# Altium schematic symbol library FF_component_lib.SchLib: 148 symbols (part 1 of 2)
Pins are listed as number, name and electrical type; pins without a type are passive.

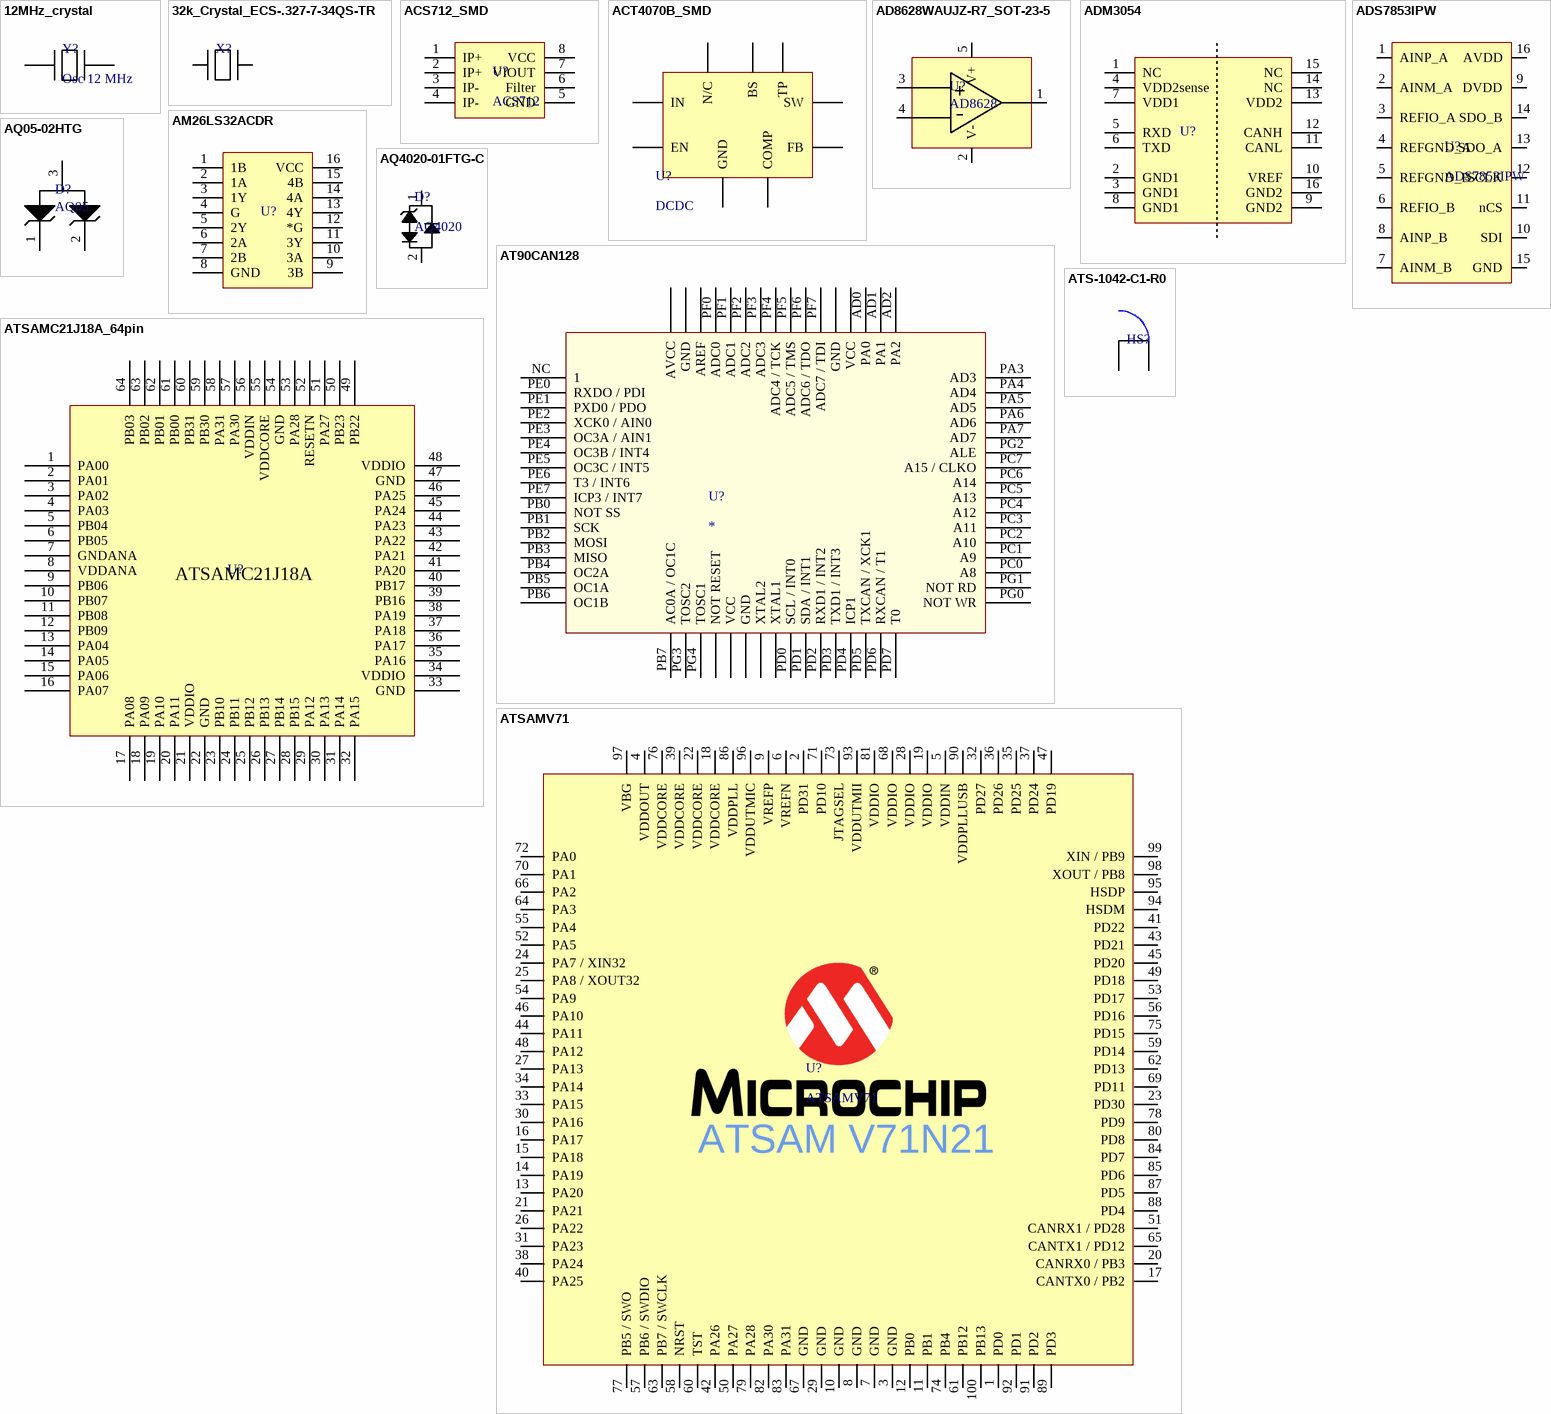
[diagram p0: symbols 12MHz_crystal to ATSAMV71]

## 12MHz_crystal
designator Y?, comment Osc 12 MHz
CX3225GA12000D0PTVCC; Parameter 1: *; Parameter 2: *
footprint CX3225GA12000D0PTVCC
pins: 1 49, 2 50

## 32k_Crystal_ECS-.327-7-34QS-TR
designator X?  (value not drawn)
Crystal 0.032768MHz ±20ppm (Stability) 7pF FUND 70000Ohm Automotive 2-Pin SMD T/R; Manufacturer 1: ECS International; Manufacturer Part Number 1: ECS-.327-7-34QS-TR; Frequency: 32.768kHz; ESR (Equivalent Series Resistance): 80kR; Supplier 1: Digi-Key; Stock 1: 2973; Pricing 1: 1=0.74000, 10=0.65500, 50=0.61260, 100=0.54130, 500=0.51282, 1000=0.42735 (USD); RoHS: Yes; Mount: Surface Mount; Case/Package: SMD/SMT; Min Operating Temperature: -40°C; Max Operating Temperature: 125°C; Frequency Tolerance: 20ppm; Packaging: Tape and Reel; Load Capacitance: 7pF; Length: 0.126inch; Height: 0.035inch; Width: 0.061inch; Ratings: AEC-Q200; ComponentLink1URL: http://www.ecsxtal.com/store/pdf/partnumber4.pdf?src-supplier=Digi-Key; ComponentLink1Description: http://www.ecsxtal.com/store/pdf/partnumber4.pdf?src-supplier=Digi-Key; Supplier Part Number 1: XC2157CT-ND
footprint 32k_crystal
pins: 1, 2

## ACS712_SMD
designator U?, comment ACS712
Current sensor. DISCONTINUED; Supplier Link 1: https://www.digikey.com/product-detail/en/allegro-microsystems/ACS712ELCTR-20A-T/620-1190-1-ND/1284607; Supplier Part Number 1: 620-1190-1-ND
footprint ACS712_SMD
pins: 1 IP+, 2 IP+, 3 IP-, 4 IP-, 5 GND, 6 Filter, 7 VIOUT, 8 VCC

## ACT4070B_SMD
designator U?, comment DCDC
6v to 30v input range / 3A output current / up to 12v output / https://active-semi.com/wp-content/uploads/ACT4070B_Datasheet.pdf; Supplier Link 1: https://www.digikey.com/product-detail/en/qorvo-us-inc/ACT4070BYH-T/1488-1080-1-ND/5723014; Supplier Part Number 1: 1488-1080-1-ND
footprint ACT4070B_SMD (Footprint not found)
pins: 1 BS, 2 IN, 3 SW, 4 GND, 5 FB, 6 COMP, 7 EN, 8 N/C, 9 TP

## AD8628WAUJZ-R7_SOT-23-5
designator U?, comment AD8628
Supplier Part Number 1: AD8628WAUJZ-R7CT-ND; Supplier Link 1: https://www.digikey.com/product-detail/en/analog-devices-inc/AD8628WAUJZ-R7/AD8628WAUJZ-R7CT-ND/2467896
footprint SOT-23-5 (0.95 pitch)
pins: 1 OUT, 2 V-, 3 +IN, 4 -IN, 5 V+

## ADM3054
designator U?  (value not drawn)
5kV rms signal isolated high speed can transceiver with bus protection; Supplier Link 1: https://www.digikey.com/product-detail/en/analog-devices-inc/ADM3054BRWZ-RL7/ADM3054BRWZ-RL7CT-ND/3828928; Supplier Part Number 1: ADM3054BRWZ-RL7CT-ND
footprint ADM3054_SOIC-16
pins: 1 NC, 2 GND1, 3 GND1, 4 VDD2sense, 5 RXD, 6 TXD, 7 VDD1, 8 GND1, 9 GND2, 10 VREF, 11 CANL, 12 CANH, 13 VDD2, 14 NC, 15 NC, 16 GND2

## ADS7853IPW
designator U?
SAR ADC, dual, single-ended input, 1 MSPS, 14-bit, simultaneous sampling 16-TSSOP -40 to 125; Manufacturer 1: Texas Instruments; Interface: SPI; Number of A/D Converters: 2; Resolution: 14b; Power Consumption: 45mW; Supply Type: Analog; Power Dissipation: 42.5mW; Integral Nonlinearity (INL): 2LSB; Signal to Noise Ratio (SNR): 84dB; Max Power Dissipation: 50mW; Max Supply Voltage: 5.5V; Number of Bits: 14; Sampling Rate: 1000000S/s; Supplier 1: Digi-Key; Manufacturer Part Number 1: ADS7853IPW; Stock 1: 39; Pricing 1: 1=12.60000, 10=11.58000, 25=11.10000, 100=9.30000, 250=8.70000, 500=8.10000, 1000=7.98000 (USD); Mount: Surface Mount; Case/Package: TSSOP; Contact Plating: Gold; Min Operating Temperature: -40°C; Max Operating Temperature: 125°C; Number of Analog Inputs: 2; Packaging: Rail/Tube; Number of Inputs: 2; Lead Free: Lead Free; ComponentLink1URL: http://www.ti.com/lit/gpn/ads7853?src-supplier=Mouser; ComponentLink1Description: http://www.ti.com/lit/gpn/ads7853?src-supplier=Mouser; ComponentLink2URL: http://www.ti.com/lit/ds/symlink/ads7253.pdf?src-supplier=Digi-Key; ComponentLink2Description: http://www.ti.com/lit/ds/symlink/ads7253.pdf?src-supplier=Digi-Key; ComponentLink3URL: http://www.ti.com/general/docs/lit/getliterature.tsp?genericPartNumber=ADS8353&&fileType=pdf&src-supplier=Avnet; ComponentLink3Description: http://www.ti.com/general/docs/lit/getliterature.tsp?genericPartNumber=ADS8353&&fileType=pdf&src-supplier=Avnet; ComponentLink4URL: https://octopart.com/click/track?ai=8629&ct=datasheets&sig=0aac16f&at=physicalpart&sid=370&ppid=31930871&hlid=24871681&src-supplier=TI+store; ComponentLink4Description: https://octopart.com/click/track?ai=8629&ct=datasheets&sig=0aac16f&at=physicalpart&sid=370&ppid=31930871&hlid=24871681&src-supplier=TI+store; ComponentLink5URL: http://datasheet.octopart.com/ADS7853IPW-Texas-Instruments-datasheet-21094391.pdf?src-supplier=TI+store; ComponentLink5Description: http://datasheet.octopart.com/ADS7853IPW-Texas-Instruments-datasheet-21094391.pdf?src-supplier=TI+store; ComponentLink6URL: http://datasheet.octopart.com/ADS7853IPW-Texas-Instruments-datasheet-27606295.pdf?src-supplier=TI+store; ComponentLink6Description: http://datasheet.octopart.com/ADS7853IPW-Texas-Instruments-datasheet-27606295.pdf?src-supplier=TI+store; ComponentLink7URL: http://datasheet.octopart.com/ADS7853IPW-Texas-Instruments-datasheet-28317083.pdf?src-supplier=TI+store; ComponentLink7Description: http://datasheet.octopart.com/ADS7853IPW-Texas-Instruments-datasheet-28317083.pdf?src-supplier=TI+store; ComponentLink8URL: http://datasheet.octopart.com/ADS7853IPW-Texas-Instruments-datasheet-34211264.pdf?src-supplier=TI+store; ComponentLink8Description: http://datasheet.octopart.com/ADS7853IPW-Texas-Instruments-datasheet-34211264.pdf?src-supplier=TI+store; ComponentLink9URL: http://sigma.octopart.com/49249815/technical_drawing/Texas-Instruments-ADS7853IPW.pdf?src-supplier=TI+store; ComponentLink9Description: http://sigma.octopart.com/49249815/technical_drawing/Texas-Instruments-ADS7853IPW.pdf?src-supplier=TI+store; ComponentLink10URL: http://sigma.octopart.com/116621398/technical_drawing/Texas-Instruments-ADS7853IPW.pdf?src-supplier=TI+store; ComponentLink10Description: http://sigma.octopart.com/116621398/technical_drawing/Texas-Instruments-ADS7853IPW.pdf?src-supplier=TI+store; ComponentLink11URL: http://datasheet.octopart.com/ADS7853IPW-Texas-Instruments-datasheet-23699007.pdf?src-supplier=Upverter; ComponentLink11Description: http://datasheet.octopart.com/ADS7853IPW-Texas-Instruments-datasheet-23699007.pdf?src-supplier=Upverter; Supplier Part Number 1: 296-47691-ND
footprint ADS7853IPW
pins: 1 AINP_A, 2 AINM_A, 3 REFIO_A, 4 REFGND_A, 5 REFGND_B, 6 REFIO_B, 7 AINM_B, 8 AINP_B, 9 DVDD, 10 SDI, 11 nCS, 12 SCLK, 13 SDO_A, 14 SDO_B, 15 GND, 16 AVDD

## AM26LS32ACDR
designator U?  (value not drawn)
IC QUAD DIFF LINE RCVR 16-SOIC; Manufacturer 1: Texas Instruments; Manufacturer Part Number 1: AM26LS32ACDR; Data Rate: 10Mbps; Number of Receivers: 4; Operating Supply Voltage: 5V; Max Supply Voltage: 5.25V; Min Supply Voltage: 4.75V; Nominal Supply Current: 70mA; Logic Function: Receiver; Current Rating: 8A; ESD Protection: No; Supplier 1: Digi-Key; Supplier Part Number 1: 296-1011-1-ND; Stock 1: 24922; Pricing 1: 1=0,66000, 10=0,57800, 25=0,54280, 100=0,41150, 250=0,35020, 500=0,33270, 1000=0,25390 (USD); RoHS: Yes; Case/Package: D; Number of Pins: 16; Weight: 0.004998oz; Contact Plating: Gold; Min Operating Temperature: 0°C; Max Operating Temperature: 70°C; Packaging: Tape and Reel; Package Quantity: 1; Operating Supply Current: 70mA; Number of Drivers: 4; Max Supply Current: 70mA; Length: 9.9mm; Height: 1.58mm; Width: 3.91mm; Radiation Hardening: No; REACH SVHC: No SVHC; Lead Free: Lead Free; ComponentLink1URL: https://datasheet.ciiva.com/3028/slls115e-3028016.pdf?src-supplier=Avnet; ComponentLink1Description: https://datasheet.ciiva.com/3028/slls115e-3028016.pdf?src-supplier=Avnet; ComponentLink2URL: https://datasheet.ciiva.com/1156/am26ls33a-1156901.pdf?src-supplier=Newark; ComponentLink2Description: https://datasheet.ciiva.com/1156/am26ls33a-1156901.pdf?src-supplier=Newark; ComponentLink3URL: https://datasheet.ciiva.com/26831/am26ls32acdr-26831645.pdf?src-supplier=IIIC; ComponentLink3Description: https://datasheet.ciiva.com/26831/am26ls32acdr-26831645.pdf?src-supplier=IIIC; ComponentLink4URL: https://datasheet.ciiva.com/1700/am26ls32a-1700817.pdf?src-supplier=Digi-Key; ComponentLink4Description: https://datasheet.ciiva.com/1700/am26ls32a-1700817.pdf?src-supplier=Digi-Key; ComponentLink5URL: https://datasheet.ciiva.com/1700/am26ls32a-1700818.pdf?src-supplier=Digi-Key; ComponentLink5Description: https://datasheet.ciiva.com/1700/am26ls32a-1700818.pdf?src-supplier=Digi-Key; ComponentLink6URL: https://datasheet.ciiva.com/3028/am26ls32a-3028146.pdf?src-supplier=Avnet; ComponentLink6Description: https://datasheet.ciiva.com/3028/am26ls32a-3028146.pdf?src-supplier=Avnet; ComponentLink7URL: https://datasheet.ciiva.com/1700/am26ls32a-1700819.pdf?src-supplier=Digi-Key; ComponentLink7Description: https://datasheet.ciiva.com/1700/am26ls32a-1700819.pdf?src-supplier=Digi-Key; ComponentLink8URL: https://datasheet.ciiva.com/26240/am26ls32a-26240838.pdf?src-supplier=Avnet+Europe; ComponentLink8Description: https://datasheet.ciiva.com/26240/am26ls32a-26240838.pdf?src-supplier=Avnet+Europe; ComponentLink9URL: https://datasheet.ciiva.com/46396/1862380-46396475.pdf?src-supplier=Element14; ComponentLink9Description: https://datasheet.ciiva.com/46396/1862380-46396475.pdf?src-supplier=Element14; ComponentLink10URL: https://datasheet.ciiva.com/8064/1862380-8064734.pdf?src-supplier=Element14; ComponentLink10Description: https://datasheet.ciiva.com/8064/1862380-8064734.pdf?src-supplier=Element14; ComponentLink11URL: https://datasheet.ciiva.com/48709/001047720-da-01-en-ic-4x-dff-ln-rc-am26ls32acdr-soic-16-tid-48709254.pdf?src-supplier=Conrad; ComponentLink11Description: https://datasheet.ciiva.com/48709/001047720-da-01-en-ic-4x-dff-ln-rc-am26ls32acdr-soic-16-tid-48709254.pdf?src-supplier=Conrad
footprint AM26LS32ACDR
pins: 1 1B, 2 1A, 3 1Y, 4 G, 5 2Y, 6 2A, 7 2B, 8 GND, 9 3B, 10 3A, 11 3Y, 12 *G, 13 4Y, 14 4A, 15 4B, 16 VCC

## AQ05-02HTG
designator D?, comment AQ05
TVS diode array. 2 diodes; Supplier Link 1: https://www.digikey.com/product-detail/en/littelfuse-inc/AQ05-02HTG/18-AQ05-02HTGCT-ND/10492405; Supplier Part Number 1: 18-AQ05-02HTGCT-ND
footprint SOT23-3_0.95pitch (SOT23, 3-Leads, Body 2,90x2,35mm, Pitch 0,95mm, IPC Medium Density)
pins: 1, 2, 3

## AQ4020-01FTG-C
designator D?, comment AQ4020
tvs diode, 3.5V  breakdown voltage, 24.5 Clamping Voltage; Supplier Part Number 1: F10395CT-ND; Supplier Link 1: https://www.digikey.com/product-detail/en/littelfuse-inc/AQ4020-01FTG-C/F10395CT-ND/7902223
footprint AQ4020-01FTG-C
pins: 1, 2

## AT90CAN128
designator U?
Supplier 1: *; Supplier Part Number 1: *
footprint AT90CAN128 (CQFP, 64-Leads, Body 16,00x16,00mm, Pitch 0,80mm, IPC Low Density)
pins: ?1 AVCC, ?2 GND, ?3 AREF, ?4 GND, ?5 VCC, ?6 XTAL1, ?7 XTAL2, ?8 GND, ?9 VCC, ?10 NOT RESET, AD0 PA0, AD1 PA1, AD2 PA2, NC 1, PA3 AD3, PA4 AD4, PA5 AD5, PA6 AD6, PA7 AD7, PB0 NOT SS, PB1 SCK, PB2 MOSI, PB3 MISO, PB4 OC2A, PB5 OC1A, PB6 OC1B, PB7 AC0A / OC1C, PC0 A8, PC1 A9, PC2 A10, PC3 A11, PC4 A12, PC5 A13, PC6 A14, PC7 A15 / CLKO, PD0 SCL / INT0, PD1 SDA / INT1, PD2 RXD1 / INT2, PD3 TXD1 / INT3, PD4 ICP1, PD5 TXCAN / XCK1, PD6 RXCAN / T1, PD7 T0, PE0 RXDO / PDI, PE1 PXD0 / PDO, PE2 XCK0 / AIN0, PE3 OC3A / AIN1, PE4 OC3B / INT4, PE5 OC3C / INT5, PE6 T3 / INT6, PE7 ICP3 / INT7, PF0 ADC0, PF1 ADC1, PF2 ADC2, PF3 ADC3, PF4 ADC4 / TCK, PF5 ADC5 / TMS, PF6 ADC6 / TDO, PF7 ADC7 / TDI, PG0 NOT WR, PG1 NOT RD, PG2 ALE, PG3 TOSC2, PG4 TOSC1

## ATS-1042-C1-R0
designator HS?  (value not drawn)
HEATSINK 41X45X15MM NYLONPUSHPIN; Manufacturer 1: Advanced Thermal Solutions; Manufacturer Part Number 1: ATS-1042-C1-R0; Package Cooled: BGA; Shape: Fins,Rectangular; Thermal Resistance @ Forced Air Flow (100 LFM): 2.5°C/W; Supplier 1: Digi-Key; Supplier Part Number 1: ATS1410-ND; Stock 1: 342; Pricing 1: 1=14,16000, 10=13,36900, 25=12,58280, 50=11,79640, 100=11,00990, 250=10,22348, 500=10,02686, 1000=9,83025 (USD); RoHS: Yes; Mount: Push Pin; Color: Green; Material: Aluminium; Package Quantity: 100; Type: Passive; Packaging: Bulk; Length: 41mm; Height: 15mm; Width: 1.772inch; Height Off Base: 0.59inch; Depth: 45mm; Radiation Hardening: No; ComponentLink1URL: https://datasheet.ciiva.com/1004/ats1042c1r0ds-1004563.pdf?src-supplier=Digi-Key; ComponentLink1Description: https://datasheet.ciiva.com/1004/ats1042c1r0ds-1004563.pdf?src-supplier=Digi-Key; ComponentLink2URL: https://datasheet.ciiva.com/26934/getdatasheetpartid-779707-26934888.pdf?src-supplier=Verical; ComponentLink2Description: https://datasheet.ciiva.com/26934/getdatasheetpartid-779707-26934888.pdf?src-supplier=Verical; ComponentLink3URL: https://datasheet.ciiva.com/16381/ats-1042-c1-r0-16381194.pdf?src-supplier=Mouser; ComponentLink3Description: https://datasheet.ciiva.com/16381/ats-1042-c1-r0-16381194.pdf?src-supplier=Mouser
footprint HS_TB
pins: 1, 2

## ATSAMC21J18A_64pin
designator U?, comment ATSAMC21J18A  (value not drawn)
ATSAMC21J18A 64 pin edition; Supplier Link 1: https://www.digikey.com/product-detail/en/microchip-technology/ATSAMC21J18A-AUT/ATSAMC21J18A-AUTCT-ND/5876007; Supplier Part Number 1: ATSAMC21J18A-AUTCT-ND
footprint ATSAMC21J18A (ATSAMC21J18A, Microchip)
pins: 1 PA00, 2 PA01, 3 PA02, 4 PA03, 5 PB04, 6 PB05, 7 GNDANA, 8 VDDANA, 9 PB06, 10 PB07, 11 PB08, 12 PB09, 13 PA04, 14 PA05, 15 PA06, 16 PA07, 17 PA08, 18 PA09, 19 PA10, 20 PA11, 21 VDDIO, 22 GND, 23 PB10, 24 PB11, 25 PB12, 26 PB13, 27 PB14, 28 PB15, 29 PA12, 30 PA13, 31 PA14, 32 PA15, 33 GND, 34 VDDIO, 35 PA16, 36 PA17, 37 PA18, 38 PA19, 39 PB16, 40 PB17, 41 PA20, 42 PA21, 43 PA22, 44 PA23, 45 PA24, 46 PA25, 47 GND, 48 VDDIO, 49 PB22, 50 PB23, 51 PA27, 52 RESETN, 53 PA28, 54 GND, 55 VDDCORE, 56 VDDIN, 57 PA30, 58 PA31, 59 PB30, 60 PB31, 61 PB00, 62 PB01, 63 PB02, 64 PB03

## ATSAMV71
designator U?
Suppliner Part Number 1: ATSAMV71N21B-AABT-CT-ND; Supplier Link 1: https://www.digikey.com/product-detail/en/microchip-technology/ATSAMV71N21B-AABT/ATSAMV71N21B-AABT-CT-ND/7644972
footprint ATSAMV71N21b
pins: 1 PD0, 2 PD31, 3 GND, 4 VDDOUT, 5 VDDIN, 6 VREFN, 7 GND, 8 GND, 9 VREFP, 10 GND, 11 PB1, 12 PB0, 13 PA20, 14 PA19, 15 PA18, 16 PA17, 17 CANTX0 / PB2, 18 VDDCORE, 19 VDDIO, 20 CANRX0 / PB3, 21 PA21, 22 VDDCORE, 23 PD30, 24 PA7 / XIN32, 25 PA8 / XOUT32, 26 PA22, 27 PA13, 28 VDDIO, 29 GND, 30 PA16, 31 PA23, 32 PD27, 33 PA15, 34 PA14, 35 PD25, 36 PD26, 37 PD24, 38 PA24, 39 VDDCORE, 40 PA25, 41 PD22, 42 PA26, 43 PD21, 44 PA11, 45 PD20, 46 PA10, 47 PD19, 48 PA12, 49 PD18, 50 PA27, 51 CANRX1 / PD28, 52 PA5, 53 PD17, 54 PA9, 55 PA4, 56 PD16, 57 PB6 / SWDIO, 58 NRST, 59 PD14, 60 TST, 61 PB12, 62 PD13, 63 PB7 / SWCLK, 64 PA3, 65 CANTX1 / PD12, 66 PA2, 67 GND, 68 VDDIO, 69 PD11, 70 PA1, 71 PD10, 72 PA0, 73 JTAGSEL, 74 PB4, 75 PD15, 76 VDDCORE, 77 PB5 / SWO, 78 PD9, 79 PA28, 80 PD8, 81 VDDIO, 82 PA30, 83 PA31, 84 PD7, 85 PD6, 86 VDDPLL, 87 PD5, 88 PD4, 89 PD3, 90 VDDPLLUSB, 91 PD2, 92 PD1, 93 VDDUTMII, 94 HSDM, 95 HSDP, 96 VDDUTMIC, 97 VBG, 98 XOUT / PB8, 99 XIN / PB9, 100 PB13
text: ATSAM V71N21

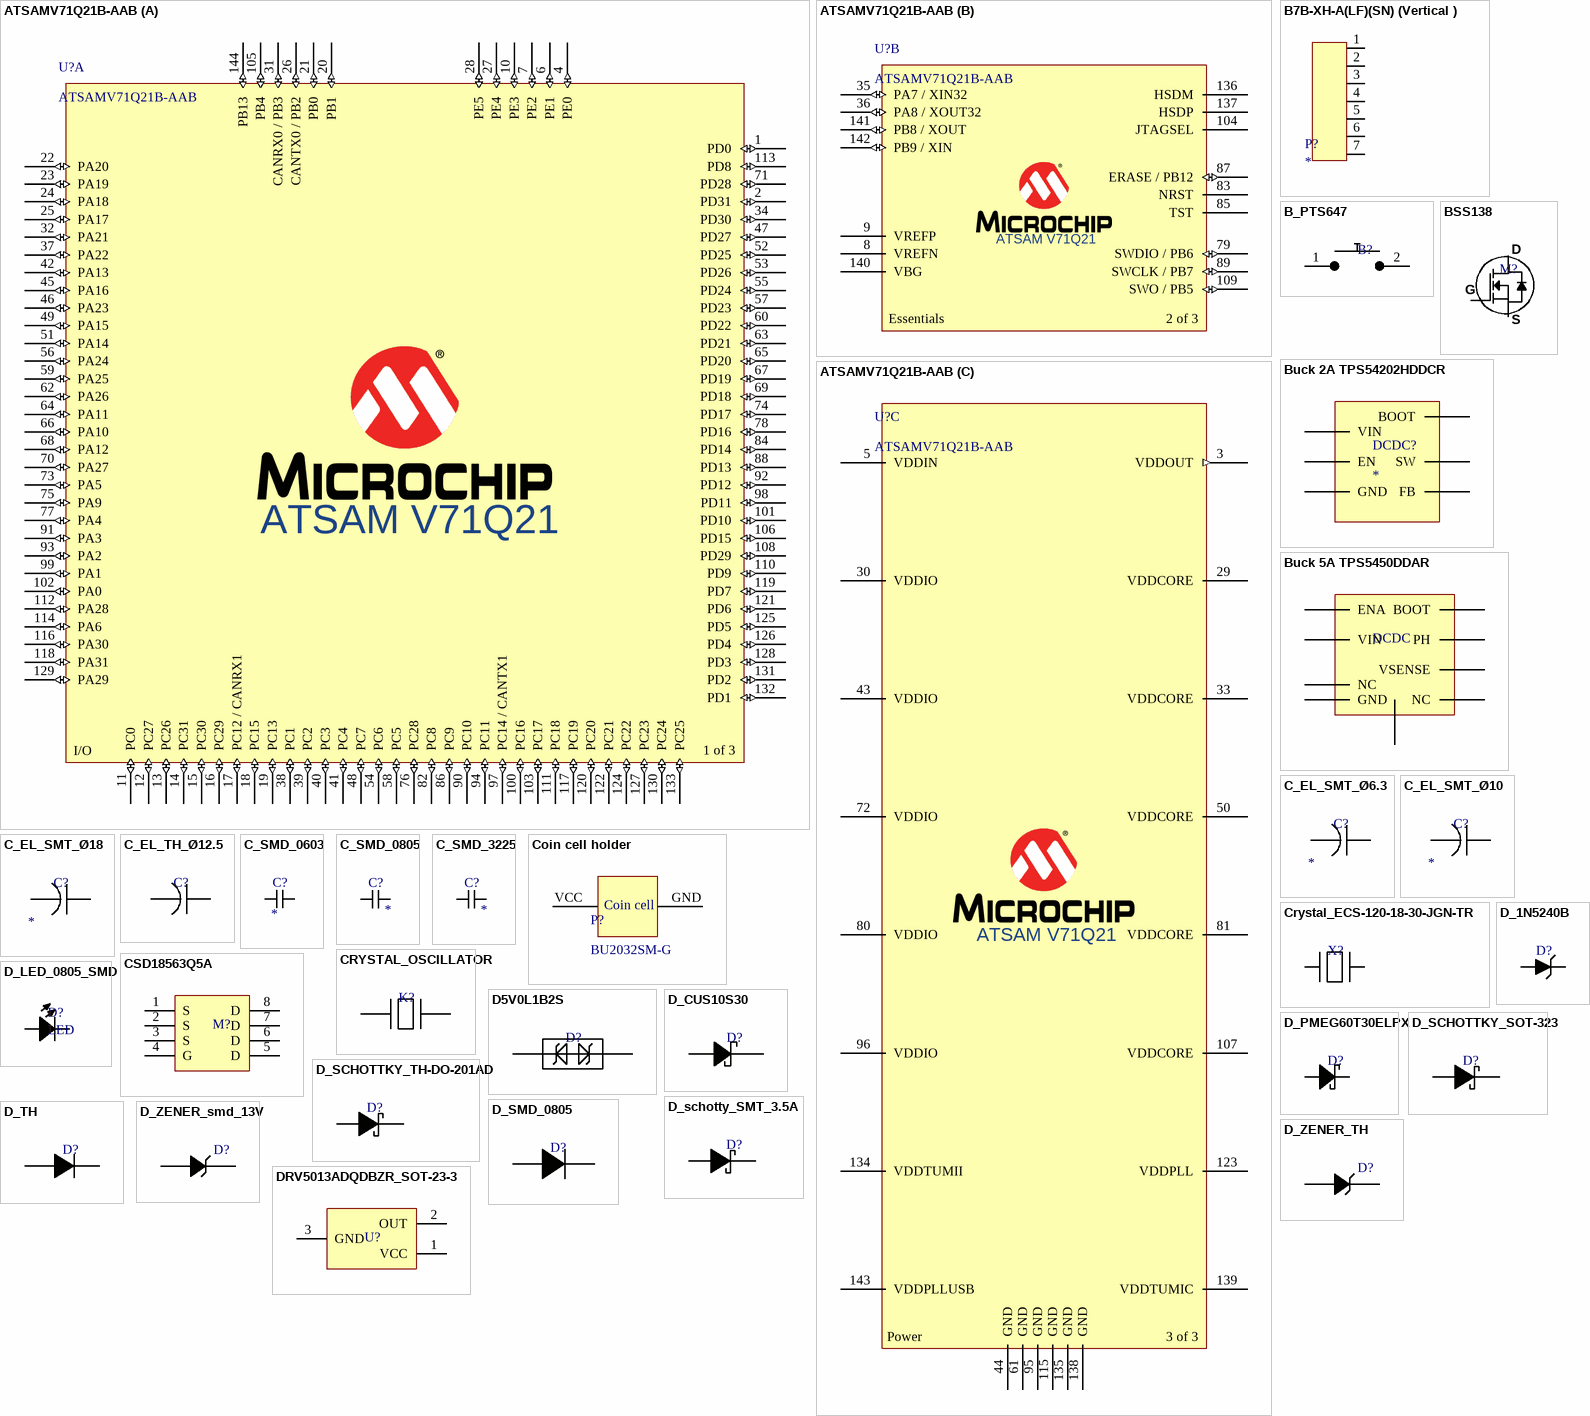
[diagram p1: symbols ATSAMV71Q21B-AAB to DRV5013ADQDBZR_SOT-23-3]

## ATSAMV71Q21B-AAB
designator U?
ATSAMV71Q21B 144 pin edition microcontroller; SourceLibrary: Microchip_2019-08-23_25; Built_By: EMA_Molly; Vendor: Microchip; Copyright: Copyright (C) 2018 Accelerated Designs. All rights reserved; Manufacturer_Part_Number: ATSAMV71Q21B-AAB; RefDes: RefDes; Type: DEV
footprint ATSAMV71Q21B-AAB
part A pins: 1 PD0 (io), 2 PD31 (io), 4 PE0 (io), 6 PE1 (io), 7 PE2 (io), 10 PE3 (io), 11 PC0 (io), 12 PC27 (io), 13 PC26 (io), 14 PC31 (io), 15 PC30 (io), 16 PC29 (io), 17 PC12 / CANRX1 (io), 18 PC15 (io), 19 PC13 (io), 20 PB1 (io), 21 PB0 (io), 22 PA20 (io), 23 PA19 (io), 24 PA18 (io), 25 PA17 (io), 26 CANTX0 / PB2 (io), 27 PE4 (io), 28 PE5 (io), 31 CANRX0 / PB3 (io), 32 PA21 (io), 34 PD30 (io), 37 PA22 (io), 38 PC1 (io), 39 PC2 (io), 40 PC3 (io), 41 PC4 (io), 42 PA13 (io), 45 PA16 (io), 46 PA23 (io), 47 PD27 (io), 48 PC7 (io), 49 PA15 (io), 51 PA14 (io), 52 PD25 (io), 53 PD26 (io), 54 PC6 (io), 55 PD24 (io), 56 PA24 (io), 57 PD23 (io), 58 PC5 (io), 59 PA25 (io), 60 PD22 (io), 62 PA26 (io), 63 PD21 (io), 64 PA11 (io), 65 PD20 (io), 66 PA10 (io), 67 PD19 (io), 68 PA12 (io), 69 PD18 (io), 70 PA27 (io), 71 PD28 (io), 73 PA5 (io), 74 PD17 (io), 75 PA9 (io), 76 PC28 (io), 77 PA4 (io), 78 PD16 (io), 82 PC8 (io), 84 PD14 (io), 86 PC9 (io), 88 PD13 (io), 90 PC10 (io), 91 PA3 (io), 92 PD12 (io), 93 PA2 (io), 94 PC11 (io), 97 PC14 / CANTX1 (io), 98 PD11 (io), 99 PA1 (io), 100 PC16 (io), 101 PD10 (io), 102 PA0 (io), 103 PC17 (io), 105 PB4 (io), 106 PD15 (io), 108 PD29 (io), 110 PD9 (io), 111 PC18 (io), 112 PA28 (io), 113 PD8 (io), 114 PA6 (io), 116 PA30 (io), 117 PC19 (io), 118 PA31 (io), 119 PD7 (io), 120 PC20 (io), 121 PD6 (io), 122 PC21 (io), 124 PC22 (io), 125 PD5 (io), 126 PD4 (io), 127 PC23 (io), 128 PD3 (io), 129 PA29 (io), 130 PC24 (io), 131 PD2 (io), 132 PD1 (io), 133 PC25 (io), 144 PB13 (io)
part B pins: 8 VREFN (power), 9 VREFP (power), 35 PA7 / XIN32 (io), 36 PA8 / XOUT32 (io), 79 SWDIO / PB6 (io), 83 NRST, 85 TST, 87 ERASE / PB12 (io), 89 SWCLK / PB7 (io), 104 JTAGSEL, 109 SWO / PB5 (io), 136 HSDM, 137 HSDP, 140 VBG, 141 PB8 / XOUT (io), 142 PB9 / XIN (io)
part C pins: 3 VDDOUT (out), 5 VDDIN (power), 29 VDDCORE (power), 30 VDDIO (power), 33 VDDCORE (power), 43 VDDIO (power), 44 GND, 50 VDDCORE (power), 61 GND, 72 VDDIO (power), 80 VDDIO (power), 81 VDDCORE (power), 95 GND, 96 VDDIO (power), 107 VDDCORE (power), 115 GND, 123 VDDPLL (power), 134 VDDTUMII (power), 135 GND, 138 GND, 139 VDDTUMIC (power), 143 VDDPLLUSB (power)
part A text: ATSAM V71Q21; I/O; 1 of 3
part B text: ATSAM V71Q21; Essentials; 2 of 3
part C text: ATSAM V71Q21; Power; 3 of 3

## B7B-XH-A(LF)(SN) (Vertical )
designator P?
JST  -  HEADER, VERTICAL, 7WAY B7B-XH-A (LF)(SN) -; Connector Type: Header,Male Pin; Number of Positions: 7; Contact Resistance: 20mR; Current Rating: 3A; Voltage Rating (AC): 250V; Insulation Resistance: 1GR; Pitch: 2.5mm; Wire/Cable Gauge: 22AWG; Supplier 1: Newark; Manufacturer: JST; Manufacturer Part Number: B7B-XH-A(LF)(SN); RoHS: Yes; Category: Headers and Wire Housings; Pricing 1: 1=0,95400, 10=0,82700, 25=0,73100, 50=0,65600, 100=0,64000, 250=0,58900, 500=0,55000, 1000=0,49200 (USD); Mount: Through Hole; Color: Natural; Housing Material: Polyamide; Contact Plating: Tin,Copper,Lead; Contact Material: Brass; Housing Color: White; Insulation Color: Natural; Contact Shape: Square; Insulation Material: Nylon; Min Operating Temperature: -25°C; Max Operating Temperature: 85°C; Packaging: Bulk; Termination: Solder; Number of Rows: 1; Max Current Rating: 3A; Number of Contacts: 7; Max Voltage Rating (AC): 250V; Orientation: Straight; Voltage Rating: 250V; Fastening Type: Detent; Length: 19.9mm; Depth: 5.75mm; Lead Pitch: 2.5mm; Lead Free: Lead Free; REACH SVHC: No SVHC; Flammability Rating: UL94 V-0; ComponentLink1URL: https://datasheet.ciiva.com/11747/0900766b80826551-11747681.pdf?src-supplier=RSComponents; ComponentLink1Description: https://datasheet.ciiva.com/11747/0900766b80826551-11747681.pdf?src-supplier=RSComponents; ComponentLink2URL: https://datasheet.ciiva.com/26894/getdatasheetpartid-440406-26894811.pdf?src-supplier=Verical; ComponentLink2Description: https://datasheet.ciiva.com/26894/getdatasheetpartid-440406-26894811.pdf?src-supplier=Verical
footprint B7B-XH-A(LF)(SN)
pins: 1 0, 2 1, 3 2, 4 3, 5 4, 6 5, 7 6

## B_PTS647
designator B?  (value not drawn)
Supplier 1: *; Supplier Link 1: https://no.mouser.com/ProductDetail/CK/PTS647SM38SMTR2LFS?qs=sGAEpiMZZMsgGjVA3toVBHesIOE8acDv0HniJz6Wb%252Bs%3D; Supplier Part Number 1: *
footprint B_PTS647SM38SMTR2LFS
pins: 1, 2

## BSS138
designator M?  (value not drawn)
Trans MOSFET N-CH 50V 0.22A 3-Pin SOT-23 T/R; Manufacturer 1: ON Semiconductor / Fairchild; On-State Resistance: 6R; Current Rating: 220mA; Fall Time: 9ns; Drain to Source Resistance: 3.5R; Power Dissipation: 360mW; Turn-Off Delay Time: 20ns; Turn-On Delay Time: 2.5ns; Threshold Voltage: 1.3V; Element Configuration: Single; Gate to Source Voltage (Vgs): 20V; Input Capacitance: 27pF; Number of Elements: 1; Supplier 1: Digi-Key; Manufacturer Part Number 1: BSS138; Stock 1: 702294; Pricing 1: 1=0.26000, 10=0.21400, 25=0.17920, 100=0.08760, 500=0.07304, 1000=0.05075 (USD); RoHS: Yes; Mount: Surface Mount; Case/Package: SOT-23; Number of Pins: 3; Weight: 0.03g; Contact Plating: Tin,Matte; Min Operating Temperature: -55°C; Max Operating Temperature: 150°C; Voltage Rating (DC): 50V; Drain to Source Voltage (Vdss): 50V; Continuous Drain Current (ID): 220mA; Drain to Source Breakdown Voltage: 50V; Termination: SMD/SMT; Dual Supply Voltage: 50V; Rds On Max: 3.5R; Packaging: Tape and Reel; Nominal Vgs: 1.3V; Max Power Dissipation: 360mW; Rise Time: 9ns; Package Quantity: 1; Length: 2.92mm; Height: 0.93mm; Width: 1.3mm; Radiation Hardening: No; Lead Free: Lead Free; REACH SVHC: No SVHC; ComponentLink1URL: https://datasheet.ciiva.com/1190/193736-1190130.pdf?src-supplier=Element14; ComponentLink1Description: https://datasheet.ciiva.com/1190/193736-1190130.pdf?src-supplier=Element14; ComponentLink2URL: https://datasheet.ciiva.com/931/bss138-931776.pdf?src-supplier=Digi-Key; ComponentLink2Description: https://datasheet.ciiva.com/931/bss138-931776.pdf?src-supplier=Digi-Key; ComponentLink3URL: https://datasheet.ciiva.com/1190/193736-1190131.pdf?src-supplier=Element14; ComponentLink3Description: https://datasheet.ciiva.com/1190/193736-1190131.pdf?src-supplier=Element14; ComponentLink4URL: https://datasheet.ciiva.com/1254/193736-1254983.pdf?src-supplier=Newark; ComponentLink4Description: https://datasheet.ciiva.com/1254/193736-1254983.pdf?src-supplier=Newark; ComponentLink5URL: https://datasheet.ciiva.com/22655/193736-22655240.pdf?src-supplier=Element14; ComponentLink5Description: https://datasheet.ciiva.com/22655/193736-22655240.pdf?src-supplier=Element14; ComponentLink6URL: https://datasheet.ciiva.com/26229/bss138-26229007.pdf?src-supplier=Avnet+Europe; ComponentLink6Description: https://datasheet.ciiva.com/26229/bss138-26229007.pdf?src-supplier=Avnet+Europe; ComponentLink7URL: https://datasheet.ciiva.com/3304/bss138-3304424.pdf?src-supplier=Avnet; ComponentLink7Description: https://datasheet.ciiva.com/3304/bss138-3304424.pdf?src-supplier=Avnet; ComponentLink8URL: https://datasheet.ciiva.com/16834/bss138-16834843.pdf?src-supplier=Future+Electronics; ComponentLink8Description: https://datasheet.ciiva.com/16834/bss138-16834843.pdf?src-supplier=Future+Electronics; ComponentLink9URL: https://datasheet.ciiva.com/27050/784896-27050043.pdf?src-supplier=Jameco; ComponentLink9Description: https://datasheet.ciiva.com/27050/784896-27050043.pdf?src-supplier=Jameco; Supplier Part Number 1: BSS138CT-ND
footprint BSS138_sot23
pins: 1 G, 2 S, 3 D

## Buck 2A TPS54202HDDCR
designator DCDC?
2A buck converter 4.5-28V inm 0.596-28V out; ComponentLink1Description: Digikey; ComponentLink1URL: https://www.digikey.no/product-detail/en/texas-instruments/TPS54202HDDCR/296-44396-1-ND/6110664; ComponentLink2Description: Datasheet; ComponentLink2URL: http://www.ti.com/general/docs/suppproductinfo.tsp?distId=10&gotoUrl=http%3A%2F%2Fwww.ti.com%2Flit%2Fgpn%2Ftps54202h
footprint 2A buck tps54202h (SOT23, 6-Leads, Body 2.90x2.80mm, Pitch 0.95mm, IPC Medium Density)
pins: 1 GND, 2 SW, 3 VIN, 4 FB, 5 EN, 6 BOOT

## Buck 5A TPS5450DDAR
designator DCDC  (value not drawn)
5A buck converter 5.5-36V in, 1.221-31.32V out; ComponentLink1Description: Datasheet; ComponentLink1URL: http://www.ti.com/lit/ds/symlink/tps5450.pdf; ComponentLink2Description: Digikey; ComponentLink2URL: https://www.digikey.no/product-detail/en/texas-instruments/TPS5450DDAR/296-26997-1-ND/2255288
footprint Buck 5A TPS5450DDAR (SOIC, 8-Leads, Body 4.90x3.90mm, Pitch 1.27mm, Thermal Pad 3.10x2.60mm, IPC Medium Density)
pins: 1 BOOT, 2 NC, 3 NC, 4 VSENSE, 5 ENA, 6 GND, 7 VIN, 8 PH, 9 PwPd

## C_EL_SMT_Ø6.3
designator C?
Supplier 1: *; Supplier Part Number 1: *; Value: *
footprint C_EL_SMT_Ø6.3
pins: 1, 2

## C_EL_SMT_Ø10
designator C?
Supplier 1: *; Supplier Part Number 1: *; Value: *
footprint C_EL_SMT_Ø10
pins: 1, 2 18

## C_EL_SMT_Ø18
designator C?
Supplier 1: *; Supplier Part Number 1: *; Category: Capacitors; Value: *
footprint C_EL_SMT_Ø18
pins: 1, 2 18

## C_EL_TH_Ø12.5
designator C?  (value not drawn)
through hole capacitor; Supplier Link 1: *; Supplier Part Number 1: *
footprint C_EL_TH_Ø12.5
pins: 1, 2

## C_SMD_0603
designator C?
value: *
footprint C_SMD_0603
pins: 1, 2

## C_SMD_0805
designator C?, comment SMD  (value not drawn)
Supplier 1: *; Supplier Part Number 1: *; Value: *
footprint C_SMD_0805_pcb (Chip Capacitor, 2-Leads, Body 2,00x1,25mm, IPC Medium Density)
pins: 1, 2

## C_SMD_3225
designator C?, comment SMD  (value not drawn)
Supplier 1: *; Supplier Part Number 1: *; Value: *
footprint C_smd_3225
pins: 1, 2

## Coin cell holder
designator P?, comment BU2032SM-G
HOLDER CR2032 GOLD LEADS SMD
footprint BU2032SM-G
pins: GND 1, VCC 0
text: Coin cell

## Crystal_ECS-120-18-30-JGN-TR
designator X?, comment 12MHz  (value not drawn)
Crystal 12MHz ±20ppm (Tol) ±30ppm (Stability) 18pF FUND 80Ohm 2-Pin Mini-SMD T/R; Manufacturer 1: ECS International; Manufacturer Part Number 1: ECS-120-18-30-JGN-TR; Supplier 1: Digi-Key; Stock 1: 927; Pricing 1: 1=0.66000, 10=0.55000, 50=0.49500, 100=0.44000, 500=0.41800 (USD); RoHS: No; Supplier Part Number 1: XC3125CT-ND
footprint 12Mhz_crystal
pins: 1, 2

## CRYSTAL_OSCILLATOR
designator K?  (value not drawn)
Value: v; Supplier Part Number 1: *; Supplier 1: *
footprint CRYSTAL_SMD_13.9x5
pins: 1 49, 2 50

## CSD18563Q5A
designator M?  (value not drawn)
MOSFET; Supplier Part Number 1: 296-36511-1-ND; Supplier Link 1: https://www.digikey.com/product-detail/en/texas-instruments/CSD18563Q5A/296-36511-1-ND/4311727
footprint CSD18563Q5A
pins: 1 S, 2 S, 3 S, 4 G, 5 D, 6 D, 7 D, 8 D

## D5V0L1B2S
designator D?  (value not drawn)
TVS diode 5.5V 14V 2X1SON; Supplier Link 1: https://www.digikey.com/product-detail/en/diodes-incorporated/D5V0L1B2S9-7/D5V0L1B2S9-7DICT-ND/4810988; Supplier Part Number 1: D5V0L1B2S9-7DICT-ND
footprint D5V0L1B2S
pins: 1, 2

## D_1N5240B
designator D?, comment 1N5240B  (value not drawn)
1N5240B.,10V 500MW 5% ZENER DO; Manufacturer 1: ON Semiconductor / Fairchild; Element Configuration: Single; Max Reverse Leakage Current: 3uA; Impedance: 17R; Zener Current: 20mA; ESD Protection: No; Supplier 1: Digi-Key; Manufacturer Part Number 1: 1N5240B; Stock 1: 16830; Pricing 1: 1=0.13000, 10=0.11800, 100=0.05550, 500=0.03290, 1000=0.02162, 5000=0.02115, 10000=0.01880, 50000=0.01457 (USD); RoHS: Yes; Mount: Through Hole; Number of Pins: 2; Weight: 80g; Contact Plating: Tin,Matte; Min Operating Temperature: -65°C; Max Operating Temperature: 200°C; Power Dissipation: 500mW; Packaging: Bulk; Zener Voltage: 10V; Voltage Tolerance: 5%; Power Rating: 500mW; Voltage Rating (DC): 10V; Package Quantity: 1000; Test Current: 20mA; Breakdown Voltage: 10V; Max Power Dissipation: 500mW; Tolerance: 5%; Length: 4.56mm; Height: 1.91mm; Width: 1.91mm; Radiation Hardening: No; Lead Free: Lead Free; REACH SVHC: No SVHC; ComponentLink1URL: https://datasheet.ciiva.com/15142/getdatasheetpartid-72727-15142402.pdf?src-supplier=Verical; ComponentLink1Description: https://datasheet.ciiva.com/15142/getdatasheetpartid-72727-15142402.pdf?src-supplier=Verical; ComponentLink2URL: https://datasheet.ciiva.com/27049/743550-27049722.pdf?src-supplier=Jameco; ComponentLink2Description: https://datasheet.ciiva.com/27049/743550-27049722.pdf?src-supplier=Jameco; ComponentLink3URL: https://datasheet.ciiva.com/27050/783130-27050021.pdf?src-supplier=Jameco; ComponentLink3Description: https://datasheet.ciiva.com/27050/783130-27050021.pdf?src-supplier=Jameco; ComponentLink4URL: https://datasheet.ciiva.com/897/1n5231b-897205.pdf?src-supplier=Digi-Key; ComponentLink4Description: https://datasheet.ciiva.com/897/1n5231b-897205.pdf?src-supplier=Digi-Key; Supplier Part Number 1: 1N5240B-ND
footprint D_1N5240B
pins: A 2, K 1

## D_CUS10S30
designator D?
Schottky diode, 30V reverse voltage. 220mV forward drop @1A; Supplier Part Number 1: CUS10S30H3FCT-ND; Supplier Link 1: https://www.digikey.no/product-detail/en/toshiba-semiconductor-and-storage/CUS10S30H3F/CUS10S30H3FCT-ND/5114377
footprint D_SC-76
pins: 1 17, 2 18

## D_LED_0805_SMD
designator D?, comment LED
footprint D_LED_0805
pins: 1, 2

## D_PMEG60T30ELPX
designator D?, comment PMEG60T30ELPX  (value not drawn)
PMEG60T30ELP - 60 V, 3 A low leakage current Trench MEGA Schottky barrier rectifier; Manufacturer 1: Nexperia; Supplier 1: Digi-Key; Manufacturer Part Number 1: PMEG60T30ELPX; Stock 1: 19939; Pricing 1: 1=0.46000, 10=0.33900, 100=0.23640, 500=0.14972, 1000=0.11662 (USD); RoHS: No; ComponentLink1URL: http://www.farnell.com/datasheets/2621619.pdf?src-supplier=Farnell; ComponentLink1Description: http://www.farnell.com/datasheets/2621619.pdf?src-supplier=Farnell; Supplier Part Number 1: 1727-7809-1-ND
footprint D_PMEG60T30ELP
pins: A 2, K 1

## D_SCHOTTKY_SOT-323
designator D?  (value not drawn)
Supplier 1: *; Supplier Part Number 1: *
footprint D_SCHOTTKY_SOD-323
pins: 1, 2

## D_SCHOTTKY_TH-DO-201AD
designator D?  (value not drawn)
Supplier 1: *; Supplier Part Number 1: *; Category: Discrete Semiconductor Products
footprint D_SCHOTTKY_TH_DO-201AD
pins: 1, 2

## D_schotty_SMT_3.5A
designator D?  (value not drawn)
Schottky Diodes & Rectifiers 8A 50V TrenchMOS; Manufacturer 1: Vishay Semiconductors; Manufacturer Part Number 1: V8PAL50-M3/I; Forward Voltage: 570mV; Average Rectified Current: 4A; Max Forward Surge Current (Ifsm): 120A; Peak Reverse Current: 40mA; Element Configuration: Single; Supplier 1: Digi-Key; Supplier Part Number 1: V8PAL50-M3/ICT-ND; Stock 1: 10227; Pricing 1: 1=0,90000, 10=0,78900, 100=0,53810, 500=0,44964, 1000=0,38267, 2500=0,35876, 5000=0,32288 (USD); RoHS: Yes; Mount: Surface Mount; Number of Pins: 2; Weight: 0.001129oz; Min Operating Temperature: -40°C; Max Operating Temperature: 150°C; Packaging: Tape and Reel; Package Quantity: 14000; Forward Current: 8A; Max Repetitive Reverse Voltage (Vrrm): 50V; Peak Non-Repetitive Surge Current: 120A; Max Reverse Voltage (DC): 50V; Length: 4.35mm; Height: 1mm; Width: 2.7mm; REACH SVHC: Unknown; ComponentLink1URL: https://datasheet.ciiva.com/29591/v8pal50-29591381.pdf?src-supplier=Digi-Key; ComponentLink1Description: https://datasheet.ciiva.com/29591/v8pal50-29591381.pdf?src-supplier=Digi-Key; ComponentLink2URL: https://datasheet.ciiva.com/29591/v8pal50-29591382.pdf?src-supplier=Digi-Key; ComponentLink2Description: https://datasheet.ciiva.com/29591/v8pal50-29591382.pdf?src-supplier=Digi-Key; ComponentLink3URL: https://datasheet.ciiva.com/29591/v8pal50-29591383.pdf?src-supplier=Digi-Key; ComponentLink3Description: https://datasheet.ciiva.com/29591/v8pal50-29591383.pdf?src-supplier=Digi-Key
footprint D_Schotty_smt_3.5A
pins: 1, 2

## D_SMD_0805
designator D?, comment SMD  (value not drawn)
Supplier 1: *; Supplier Part Number 1: *
footprint D_SMD_0805_pcb
pins: 1, 2

## D_TH
designator D?  (value not drawn)
Supplier 1: *; Supplier Part Number 1: *
footprint D_TH_STD
pins: 1, 2

## D_ZENER_smd_13V
designator D?  (value not drawn)
Supplier Part Number 1: *; Supplier 1: *; Value: *
footprint D_ZENER_12V_smd
pins: 1 56, 2

## D_ZENER_TH
designator D?  (value not drawn)
Supplier Part Number 1: *; Supplier 1: *
footprint D_TH_STD
pins: 1 56, 2

## DRV5013ADQDBZR_SOT-23-3
designator U?  (value not drawn)
Hall effect sensor; Supplier Link 1: https://www.digikey.com/product-detail/en/texas-instruments/DRV5013ADQDBZRQ1/296-47764-1-ND/8133113; Supplier Part Number 1: 296-47764-1-ND
footprint DRV5013AD1DBZRQ1
pins: 1 VCC, 2 OUT, 3 GND

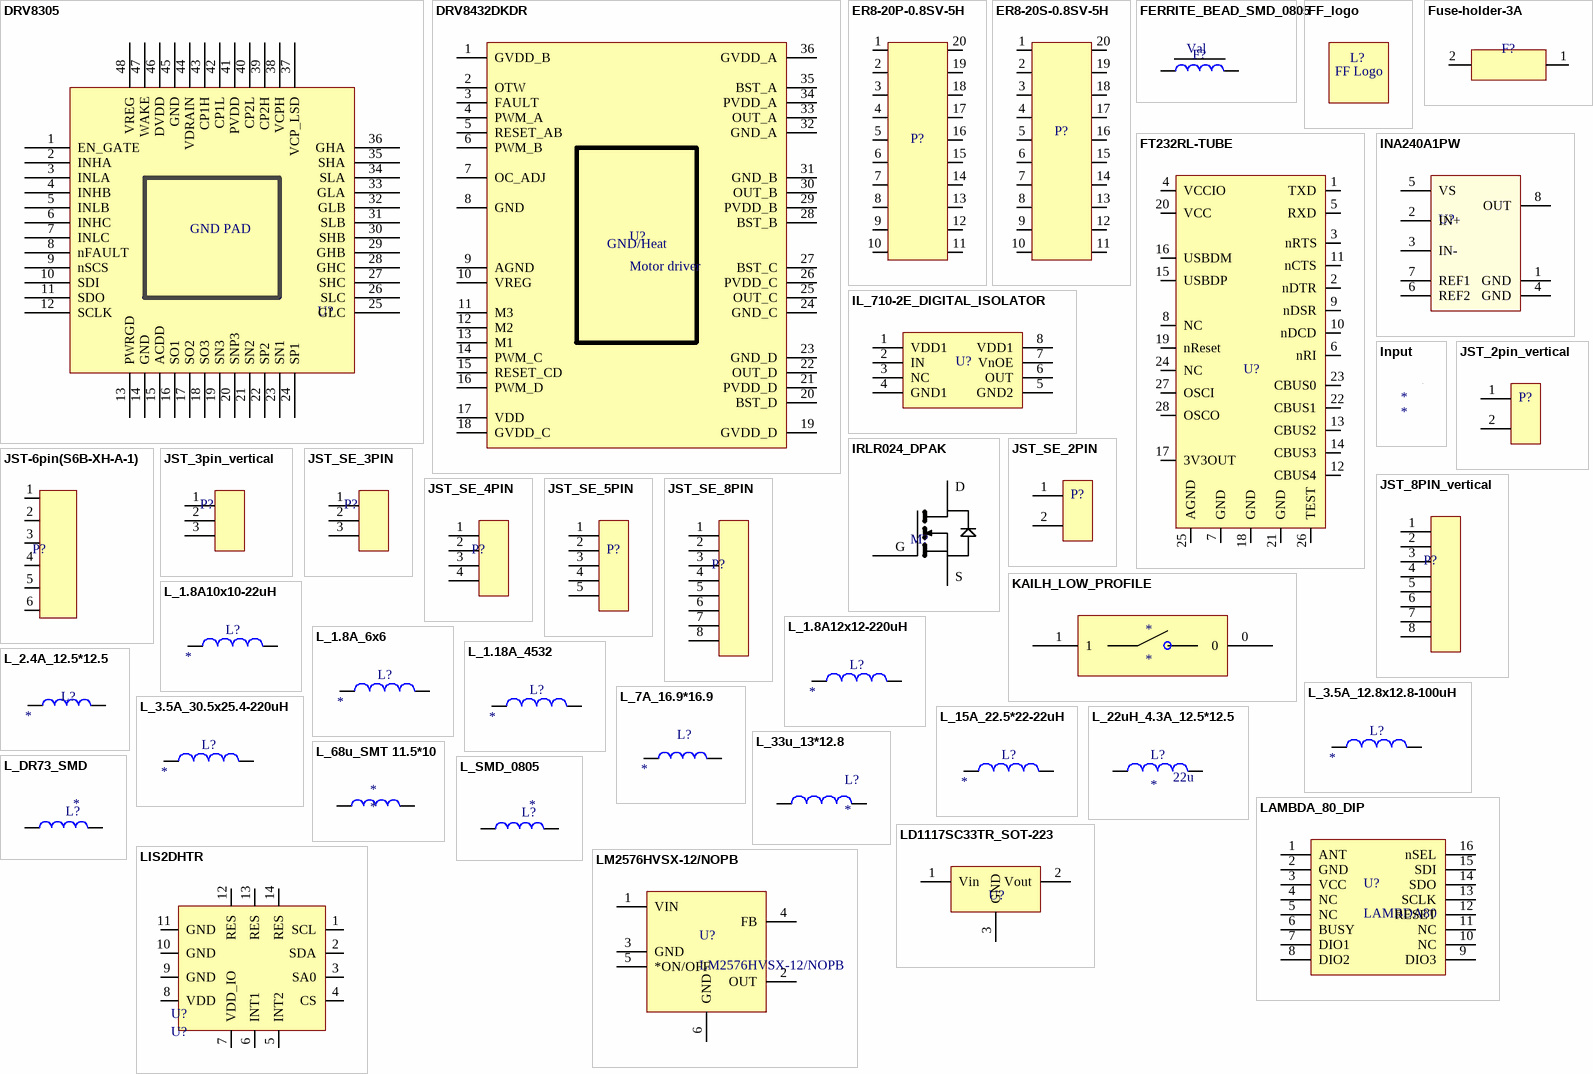
[diagram p2: symbols DRV8305 to LM2576HVSX-12/NOPB]

## DRV8305
designator U?  (value not drawn)
MOSFET driver, 4.4 to 45V Operating voltage; Supplier Part Number 1: 296-42659-1-ND; Supplier Link 1: https://www.digikey.com/product-detail/en/texas-instruments/DRV8305NPHPR/296-42659-1-ND/5455924
footprint DRV8305_HTQFP_48pin (DRV8305 three phase MOSFET gate driver)
pins: 1 EN_GATE, 2 INHA, 3 INLA, 4 INHB, 5 INLB, 6 INHC, 7 INLC, 8 nFAULT, 9 nSCS, 10 SDI, 11 SDO, 12 SCLK, 13 PWRGD, 14 GND, 15 ACDD, 16 SO1, 17 SO2, 18 SO3, 19 SN3, 20 SNP3, 21 SN2, 22 SP2, 23 SN1, 24 SP1, 25 GLC, 26 SLC, 27 SHC, 28 GHC, 29 GHB, 30 SHB, 31 SLB, 32 GLB, 33 GLA, 34 SLA, 35 SHA, 36 GHA, 37 VCP_LSD, 38 VCPH, 39 CP2H, 40 CP2L, 41 PVDD, 42 CP1L, 43 CP1H, 44 VDRAIN, 45 GND, 46 DVDD, 47 WAKE, 48 VREG
text: GND PAD

## DRV8432DKDR
designator U?, comment Motor driver
IC BRIDGE DRIVER PAR 36HSSOP; Manufacturer 1: Texas Instruments; Manufacturer Part Number 1: DRV8432DKDR; Max Supply Voltage: 52.5V; Min Supply Voltage: 0uV; Operating Supply Voltage: 50V; Number of Outputs: 2; Output Current: 7A; Nominal Supply Current: 10.5mA; Interface: PWM; Power Dissipation: 5W; Max Output Current: 12A; Fault Protection: Over Temperature,Short Circuit; Supplier 1: Digi-Key; Supplier Part Number 1: 296-29573-1-ND; Stock 1: 2413; Pricing 1: 1=11,86000, 10=10,71800, 25=10,21960, 100=8,47480, 250=7,72708 (USD); RoHS: Yes; Mount: Surface Mount; Number of Pins: 36; Min Operating Temperature: -40°C; Max Operating Temperature: 85°C; Packaging: Tape and Reel; Package Quantity: 500; Output Current per Channel: 7A; Radiation Hardening: No; Lead Free: Lead Free; ComponentLink1URL: https://datasheet.ciiva.com/15109/getdatasheetpartid-482142-15109561.pdf?src-supplier=Verical; ComponentLink1Description: https://datasheet.ciiva.com/15109/getdatasheetpartid-482142-15109561.pdf?src-supplier=Verical; ComponentLink2URL: https://datasheet.ciiva.com/1959/drv8432-1959978.pdf?src-supplier=Digi-Key; ComponentLink2Description: https://datasheet.ciiva.com/1959/drv8432-1959978.pdf?src-supplier=Digi-Key; ComponentLink3URL: https://datasheet.ciiva.com/41457/001013555-da-01-en-ic-bridge-driver-drv8432dkdr-ssop-36-tid-41457289.pdf?src-supplier=Conrad; ComponentLink3Description: https://datasheet.ciiva.com/41457/001013555-da-01-en-ic-bridge-driver-drv8432dkdr-ssop-36-tid-41457289.pdf?src-supplier=Conrad; ComponentLink4URL: https://datasheet.ciiva.com/3228/drv8432-3228999.pdf?src-supplier=Avnet; ComponentLink4Description: https://datasheet.ciiva.com/3228/drv8432-3228999.pdf?src-supplier=Avnet; ComponentLink5URL: https://datasheet.ciiva.com/1959/drv8432-1959979.pdf?src-supplier=Digi-Key; ComponentLink5Description: https://datasheet.ciiva.com/1959/drv8432-1959979.pdf?src-supplier=Digi-Key; ComponentLink6URL: https://datasheet.ciiva.com/1959/drv8432-1959980.pdf?src-supplier=Digi-Key; ComponentLink6Description: https://datasheet.ciiva.com/1959/drv8432-1959980.pdf?src-supplier=Digi-Key; Category: Integrated Circuits (ICs)
footprint DRV8432DKDR-SOP36
pins: 1 GVDD_B, 2 OTW, 3 FAULT, 4 PWM_A, 5 RESET_AB, 6 PWM_B, 7 OC_ADJ, 8 GND, 9 AGND, 10 VREG, 11 M3, 12 M2, 13 M1, 14 PWM_C, 15 RESET_CD, 16 PWM_D, 17 VDD, 18 GVDD_C, 19 GVDD_D, 20 BST_D, 21 PVDD_D, 22 OUT_D, 23 GND_D, 24 GND_C, 25 OUT_C, 26 PVDD_C, 27 BST_C, 28 BST_B, 29 PVDD_B, 30 OUT_B, 31 GND_B, 32 GND_A, 33 OUT_A, 34 PVDD_A, 35 BST_A, 36 GVDD_A
text: GND/Heat

## ER8-20P-0.8SV-5H
designator P?  (value not drawn)
20 Position High-Speed Transmission Plating Thickness 0.76µm Straight Header; Manufacturer 1: Hirose; Supplier 1: Digi-Key; Manufacturer Part Number 1: ER8-20P-0.8SV-5H; Stock 1: 261; Pricing 1: 1=4.54000, 10=4.35600, 25=3.99320, 50=3.81160, 100=3.63000 (USD); RoHS: No; Supplier Part Number 1: H125538DKR-ND
footprint ER8-20P
pins: 1, 2, 3, 4, 5, 6, 7, 8, 9, 10, 11, 12, 13, 14, 15, 16, 17, 18, 19, 20

## ER8-20S-0.8SV-5H
designator P?  (value not drawn)
20 Position High-Speed Transmission Plating Thickness 0.76µm Straight Receptacle; Manufacturer 1: Hirose; Supplier 1: Digi-Key; Manufacturer Part Number 1: ER8-20S-0.8SV-5H; Stock 1: 128; Pricing 1: 1=4.26000, 10=4.09200, 25=3.75120, 50=3.58060, 100=3.41000, 250=2.98376 (USD); RoHS: No; Supplier Part Number 1: H125548CT-ND
footprint ER8-20S
pins: 1, 2, 3, 4, 5, 6, 7, 8, 9, 10, 11, 12, 13, 14, 15, 16, 17, 18, 19, 20

## FERRITE_BEAD_SMD_0805
designator F?  value Val  (hidden comment: *)
Supplier 1: *; Supplier Part Number 1: *
footprint FERRITE_BEAD_SMD_0805 (SMD ferrite bead)
pins: 1, 2

## FF_logo
designator L?  (value not drawn)
footprint FF_logo
text: FF Logo

## FT232RL-TUBE
designator U?  (value not drawn)
IC USB FS SERIAL UART 28-SSOP; Manufacturer 1: FTDI; Number of Channels: 1; Max Supply Voltage: 5.25V; Min Supply Voltage: 3.3V; Operating Supply Voltage: 5V; Data Rate: 12Mbps; Operating Supply Current: 15mA; Supplier 1: Digi-Key; Manufacturer Part Number 1: FT232RL-TUBE; Stock 1: 7377; Pricing 1: 1=4.50000, 10=4.05000, 50=3.85000, 100=3.65000, 250=3.25000, 500=2.85002, 1000=2.65000, 2500=2.35001 (USD); RoHS: Yes; Mount: Surface Mount; Case/Package: SSOP; Number of Pins: 28; Weight: 0.080001oz; Min Operating Temperature: -40°C; Max Operating Temperature: 85°C; Packaging: Rail/Tube; Package Quantity: 188; Interface: UART; Radiation Hardening: No; ComponentLink1URL: http://www.mouser.com/ds/2/163/DS_FT232R-11534.pdf?src-supplier=Mouser; ComponentLink1Description: http://www.mouser.com/ds/2/163/DS_FT232R-11534.pdf?src-supplier=Mouser; ComponentLink2URL: http://components.arrow.com/part/dataview/0323_05861330?src-supplier=Arrow+Europe; ComponentLink2Description: http://components.arrow.com/part/dataview/0323_05861330?src-supplier=Arrow+Europe; ComponentLink3URL: http://components.arrow.com/part/dataview/53396259S27583N4933?src-supplier=Arrow+Electronics; ComponentLink3Description: http://components.arrow.com/part/dataview/53396259S27583N4933?src-supplier=Arrow+Electronics; ComponentLink4URL: http://www.ftdichip.com/Support/Documents/DataSheets/ICs/DS_FT232R.pdf?src-supplier=Digi-Key; ComponentLink4Description: http://www.ftdichip.com/Support/Documents/DataSheets/ICs/DS_FT232R.pdf?src-supplier=Digi-Key; ComponentLink5URL: http://www.ftdichip.com/Support/Documents/AppNotes/AN_126_User_Guide_For_FT232_Factory%20test%20utility.pdf?src-supplier=Digi-Key; ComponentLink5Description: http://www.ftdichip.com/Support/Documents/AppNotes/AN_126_User_Guide_For_FT232_Factory%20test%20utility.pdf?src-supplier=Digi-Key; ComponentLink6URL: https://www.verical.com/server-webapp/html/getDatasheet?partID=646045&src-supplier=Verical; ComponentLink6Description: https://www.verical.com/server-webapp/html/getDatasheet?partID=646045&src-supplier=Verical; Supplier Part Number 1: 768-1306-ND
footprint FT232RL_SSOP28 - duplicate
pins: 1 TXD, 2 nDTR, 3 nRTS, 4 VCCIO, 5 RXD, 6 nRI, 7 GND, 8 NC, 9 nDSR, 10 nDCD, 11 nCTS, 12 CBUS4, 13 CBUS2, 14 CBUS3, 15 USBDP, 16 USBDM, 17 3V3OUT, 18 GND, 19 nReset, 20 VCC, 21 GND, 22 CBUS1, 23 CBUS0, 24 NC, 25 AGND, 26 TEST, 27 OSCI, 28 OSCO

## Fuse-holder-3A
designator F?  (value not drawn)
(22.352mm x6.858mm); ComponentLink1Description: datasheet; ComponentLink1URL: https://www.littelfuse.com/~/media/electronics/datasheets/fuse_clips/littelfuse_fuse_clip_111_datasheet.pdf.pdf; Supplier Link 1: F4225-ND; Supplier Part Number 1: https://www.digikey.com/product-detail/en/littelfuse-inc/01000020Z/F4225-ND/3131000
footprint fuse_holder_3A
pins: 1 VIN, 2 VIN

## IL_710-2E_DIGITAL_ISOLATOR
designator U?  (value not drawn)
Digital Isolator 3-5V input/output.; Supplier Part Number 1: 390-IL710-2E-ND; Supplier Link 1: https://www.digikey.com/product-detail/en/nve-corp-isolation-products/IL-710-2E/390-IL710-2E-ND/964103
footprint IL_710-2E_DIP8
pins: 1 VDD1, 2 IN, 3 NC, 4 GND1, 5 GND2, 6 OUT, 7 VnOE, 8 VDD1

## INA240A1PW
designator U?  (value not drawn)
IC current sens; Supplier Link 1: https://www.digikey.com/product-detail/en/texas-instruments/INA240A1PWR/296-45088-1-ND/6562101; Supplier Part Number 1: 296-45088-1-ND
footprint INA240A1PW_TSSOP
pins: 1 GND, 2 IN+, 3 IN-, 4 GND, 5 VS, 6 REF2, 7 REF1, 8 OUT

## Input
designator *
Value: *
pins: 5 (in)

## IRLR024_DPAK
designator M?  (value not drawn)
Supplier Link 1: https://www.digikey.com/product-detail/en/vishay-siliconix/IRLR024/IRLR024-ND/352646; Supplier Part Number 1: IRLR024-ND
footprint IRLR024_DPAK
pins: 1, 2 G, 3
text: D; S

## JST-6pin(S6B-XH-A-1)
designator P?, comment JST-6pin  (value not drawn)
Side Entry Connector Header, XH Series, 6 Position, 2.50mm, Through Hole, Press-Fit, Solder, Natural; Manufacturer 1: JST; Manufacturer Part Number 1: S6B-XH-A-1(LF)(SN); Voltage Rating: 250V; Gender: Male; Insulation Resistance: 1GR; Number of Positions: 6; Current Rating: 3A; Pitch: 2.5mm; Supplier 1: Digi-Key; Stock 1: 284; Pricing 1: 1=0.40000, 10=0.37500, 100=0.26240, 500=0.22488, 1000=0.18741, 5000=0.16063, 10000=0.14993 (USD); RoHS: Yes; Mount: Through Hole; Contact Material: Brass; Material: Polyamide; Color: Natural; Contact Plating: Tin; Min Operating Temperature: -25°C; Max Operating Temperature: 85°C; Number of Rows: 1; Termination: Crimp; Lead Free: Lead Free; ComponentLink1URL: https://datasheet.ciiva.com/16206/jsts6b-xh-a-1-lf-sn-16206939.pdf?src-supplier=Future+Electronics; ComponentLink1Description: https://datasheet.ciiva.com/16206/jsts6b-xh-a-1-lf-sn-16206939.pdf?src-supplier=Future+Electronics; Supplier Part Number 1: 455-4229-ND
footprint JST6
pins: 1, 2, 3, 4, 5, 6

## JST_2pin_vertical
designator P?  (value not drawn)
Supplier Link 1: https://www.digikey.com/product-detail/en/jst-sales-america-inc/S2B-XH-A-LF-SN/455-2257-ND/1651055; Supplier Part Number 1: 455-2257-ND
footprint JST_2pin_vertical
pins: 1, 2

## JST_3pin_vertical
designator P?  (value not drawn)
Supplier Part Number 1: 455-2250-ND; Supplier Link 1: https://www.digikey.com/product-detail/en/jst-sales-america-inc/S3B-XH-A-LF-SN/455-2250-ND/1651048
footprint JST_3PIN_vertical
pins: 1, 2, 3

## JST_8PIN_vertical
designator P?
Supplier Link 1: https://www.digikey.com/product-detail/en/jst-sales-america-inc/S8B-XH-A-1-LF-SN/455-4231-ND/9961927; Supplier Part Number 1: 455-4231-ND; Category: Pin Header
footprint JST_8PIN_vertical
pins: 1, 2, 3, 4, 5, 6, 7, 8

## JST_SE_2PIN
designator P?  (value not drawn)
Supplier Link 1: https://www.digikey.com/product-detail/en/jst-sales-america-inc/S2B-XH-A-LF-SN/455-2257-ND/1651055; Supplier Part Number 1: 455-2257-ND
footprint JST_SE_2PIN
pins: 1, 2

## JST_SE_3PIN
designator P?  (value not drawn)
Supplier Part Number 1: 455-2250-ND; Supplier Link 1: https://www.digikey.com/product-detail/en/jst-sales-america-inc/S3B-XH-A-LF-SN/455-2250-ND/1651048
footprint JST_SE_3PIN
pins: 1, 2, 3

## JST_SE_4PIN
designator P?  (value not drawn)
Supplier Link 1: https://www.digikey.com/product-detail/en/jst-sales-america-inc/S4B-XH-A-LF-SN/455-2243-ND/1651041; Supplier Part Number 1: 455-2243-ND
footprint JST_SE_4PIN
pins: 1, 2, 3, 4

## JST_SE_5PIN
designator P?  (value not drawn)
Supplier Link 1: https://www.digikey.com/product-detail/en/jst-sales-america-inc/S5B-XH-A-LF-SN/455-2242-ND/1651040; Supplier Part Number 1: 455-2242-ND
footprint JST_SE_5PIN (for side PCB)
pins: 1, 2, 3, 4, 5

## JST_SE_8PIN
designator P?
Supplier Link 1: https://www.digikey.com/product-detail/en/jst-sales-america-inc/S8B-XH-A-1-LF-SN/455-4231-ND/9961927; Supplier Part Number 1: 455-4231-ND; Category: Pin Header
footprint JST_SE_8PIN
pins: 1, 2, 3, 4, 5, 6, 7, 8

## KAILH_LOW_PROFILE
designator *
footprint KAILH_LOW_PROFILE
pins: 0, 1

## L_1.8A10x10-22uH
designator L?
Category: Inductor; Value: *
footprint L_10x10_22uH
pins: 1, 2

## L_1.8A12x12-220uH
designator L?
Category: Inductor; Value: *
footprint L_12x12_220uH
pins: 1, 2

## L_1.8A_6x6
designator L?
Category: Inductor; Value: *
footprint L_6x6_1.8A
pins: 1, 2

## L_1.18A_4532
designator L?
Category: Inductor; Value: *
footprint L_1.18A_4532
pins: 1, 2

## L_2.4A_12.5*12.5
designator L?
Value: *
footprint L_2.4A_12.5*12.5
pins: 1, 2

## L_3.5A_12.8x12.8-100uH
designator L?
Category: Inductor; Value: *
footprint L_12.8x12.8-100uH
pins: 1, 2

## L_3.5A_30.5x25.4-220uH
designator L?
Category: Inductor; Value: *
footprint L_30.5x25.4_220uH
pins: 1, 2

## L_7A_16.9*16.9
designator L?
Value: *
footprint L_7A_16.9*16.9
pins: 1, 2

## L_15A_22.5*22-22uH
designator L?
Category: Inductor; Value: *
footprint L_22uH_2212
pins: 1, 2

## L_22uH_4.3A_12.5*12.5
designator L?  value 22u
ComponentLink1Description: Datasheet; ComponentLink1URL: https://www.bourns.com/docs/Product-Datasheets/SRR1280.pdf
footprint L_22uH_12.5*12.5 (Precision Wire Wound Inductor, 2-Leads, Body 12.50x12.50mm, IPC Medium Density)
pins: 1, 2

## L_33u_13*12.8
designator L?
Value: 33u; ComponentLink1Description: Digikey; ComponentLink1URL: https://www.digikey.no/product-detail/en/w-rth-elektronik/7443551331/732-3881-1-ND/3315122
footprint L_33u_13*12.8 (Molded Capacitor, 2-Leads, Body 13.00x12.80mm, IPC Medium Density)
pins: 1

## L_68u_SMT 11.5*10
designator *
footprint L_68u 11.5*10 (Chip Inductor, 2-Leads, Body 11.45x10.00mm, IPC Medium Density)
pins: 1, 2

## L_DR73_SMD
designator L?, comment SMD  (value not drawn)
Supplier 1: *; Supplier Part Number 1: *; Value: *
footprint L_DR73_SMD
pins: 1, 2

## L_SMD_0805
designator L?, comment SMD  (value not drawn)
Supplier 1: *; Supplier Part Number 1: *; Value: *
footprint L_SMD_0805_PCB
pins: 1, 2

## LAMBDA_80_DIP
designator U?, comment LAMBDA80
Supplier Link 1: https://www.digikey.com/product-detail/en/rf-solutions/LAMBDA80-24D/LAMBDA80-24D-ND/9749702; Supplier Part Number 1: LAMBDA80-24D-ND
footprint LAMBDA62_SMT
pins: 1 ANT, 2 GND, 3 VCC, 4 NC, 5 NC, 6 BUSY, 7 DIO1, 8 DIO2, 9 DIO3, 10 NC, 11 NC, 12 RESET, 13 SCLK, 14 SDO, 15 SDI, 16 nSEL

## LD1117SC33TR_SOT-223
designator U?  (value not drawn)
Supplier Part Number 1: 497-1241-1-ND; Supplier 1: https://www.digikey.com/product-detail/en/stmicroelectronics/LD1117S33CTR/497-1241-1-ND/586241
footprint LD1117S33TR (SOT223, 4-Leads, Body 6,50x7,00mm (avg), Pitch 2,30mm, IPC Medium Density)
pins: 1 Vin, 2 Vout, 3 GND

## LIS2DHTR
designator U?, comment U?
ACCELEROMETER I2C/SPI 14-LGA; Manufacturer: STMicroelectronics; Manufacturer Part Number: LIS2DHTR; Interface: I2C,SPI; Sensor Type: 3 Axis; Max Supply Voltage: 3.6V; Min Supply Voltage: 1.71V; Nominal Supply Current: 300uA; Bandwidth: 5.3kHz; Operating Supply Current: 2uA; Output Type: Digital; Axis: X, Y, Z; Current Rating: 3A; Contact Resistance: 10mR; Voltage Rating (AC): 250V; Gender: Male; Number of Positions: 7; Insulation Resistance: 1GR; Connector Type: Header,Male Pin; Wire/Cable Gauge: 22AWG; Pitch: 2.5mm; Supplier 1: Digi-Key; RoHS: Yes; Category: Sensors; Stock 1: 66219; Pricing 1: 1=1,53000, 10=1,37300, 25=1,29520, 100=1,10330, 500=0,90650, 1000=0,75110 (USD); Case/Package: LGA; Number of Pins: 14; Contact Plating: Gold; Min Operating Temperature: -40°C; Max Operating Temperature: 85°C; Package Quantity: 8000; Packaging: Tape and Reel; Max Supply Voltage (DC): 3.6V; Min Supply Voltage (DC): 1.71V; Length: 2.15mm; Width: 2.15mm; Height: 1mm; Radiation Hardening: No; REACH SVHC: No SVHC; Lead Free: Lead Free; ComponentLink1URL: https://datasheet.ciiva.com/18495/dm00042751-18495846.pdf?src-supplier=Digi-Key; ComponentLink1Description: https://datasheet.ciiva.com/18495/dm00042751-18495846.pdf?src-supplier=Digi-Key; ComponentLink2URL: https://datasheet.ciiva.com/15330/dm00042751-15330150.pdf?src-supplier=Mouser; ComponentLink2Description: https://datasheet.ciiva.com/15330/dm00042751-15330150.pdf?src-supplier=Mouser; ComponentLink3URL: https://datasheet.ciiva.com/18495/dm00042751-18495847.pdf?src-supplier=Digi-Key; ComponentLink3Description: https://datasheet.ciiva.com/18495/dm00042751-18495847.pdf?src-supplier=Digi-Key; ComponentLink4URL: https://datasheet.ciiva.com/18495/dm00042751-18495848.pdf?src-supplier=Digi-Key; ComponentLink4Description: https://datasheet.ciiva.com/18495/dm00042751-18495848.pdf?src-supplier=Digi-Key; ComponentLink5URL: https://datasheet.ciiva.com/46423/1836730-46423947.pdf?src-supplier=Element14; ComponentLink5Description: https://datasheet.ciiva.com/46423/1836730-46423947.pdf?src-supplier=Element14; Supplier 2: Farnell; Stock 2: 2522; Pricing 2: 10=0,33500, 100=0,23400, 500=0,20100, 1000=0,16700, 2500=0,15600, 5000=0,14400 (GBP); Mount: Through Hole; Contact Material: Brass; Color: Natural; Contact Shape: Square; Insulation Material: Nylon; Insulation Color: Natural; Number of Rows: 1; Orientation: Right Angle; Termination: Solder; Number of Contacts: 7; Voltage Rating: 250V; Fastening Type: Detent; Lead Pitch: 2.5mm; Flammability Rating: UL94 V-0; ComponentLink6URL: https://datasheet.ciiva.com/16484/exh-16484539.pdf?src-supplier=Future+Electronics; ComponentLink6Description: https://datasheet.ciiva.com/16484/exh-16484539.pdf?src-supplier=Future+Electronics; ComponentLink7URL: https://datasheet.ciiva.com/726/exh-726397.pdf?src-supplier=Digi-Key; ComponentLink7Description: https://datasheet.ciiva.com/726/exh-726397.pdf?src-supplier=Digi-Key; ComponentLink8URL: https://datasheet.ciiva.com/8052/5448-8052233.pdf?src-supplier=Element14; ComponentLink8Description: https://datasheet.ciiva.com/8052/5448-8052233.pdf?src-supplier=Element14; Supplier 3: Farnell; Stock 3: 2522; Pricing 3: 10=0,33500, 100=0,23400, 500=0,20100, 1000=0,16700, 2500=0,15600, 5000=0,14400 (GBP)
footprint LIS2DHTR
pins: 1 SCL, 2 SDA, 3 SA0, 4 CS, 5 INT2, 6 INT1, 7 VDD_IO, 8 VDD, 9 GND, 10 GND, 11 GND, 12 RES, 13 RES, 14 RES